# Altium schematic symbol library 545482071.Schlib: 1 symbol
Pins are listed as number, name and electrical type; pins without a type are passive.

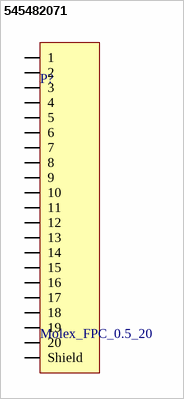
[diagram p0: symbol 545482071]

## 545482071
designator P?, comment Molex_FPC_0.5_20
0.5mm Pitch, 20 Pin Right Molex FPC Connector
pins: 1, 2, 3, 4, 5, 6, 7, 8, 9, 10, 11, 12, 13, 14, 15, 16, 17, 18, 19, 20, 21 Shield